# Altium footprint library 转接板封装PCB.PcbLib: 44 footprints (part 3 of 3)
Each footprint in its own frame and in the unit in brackets; x right, y up, seen from the top. Pads: shape width x height; smd on the part's side, far side on the other; paste and mask are expansions set on the pad; w line width, h text height; cw(c..) or ccw(c..) is an arc to the next point about the centre after c.
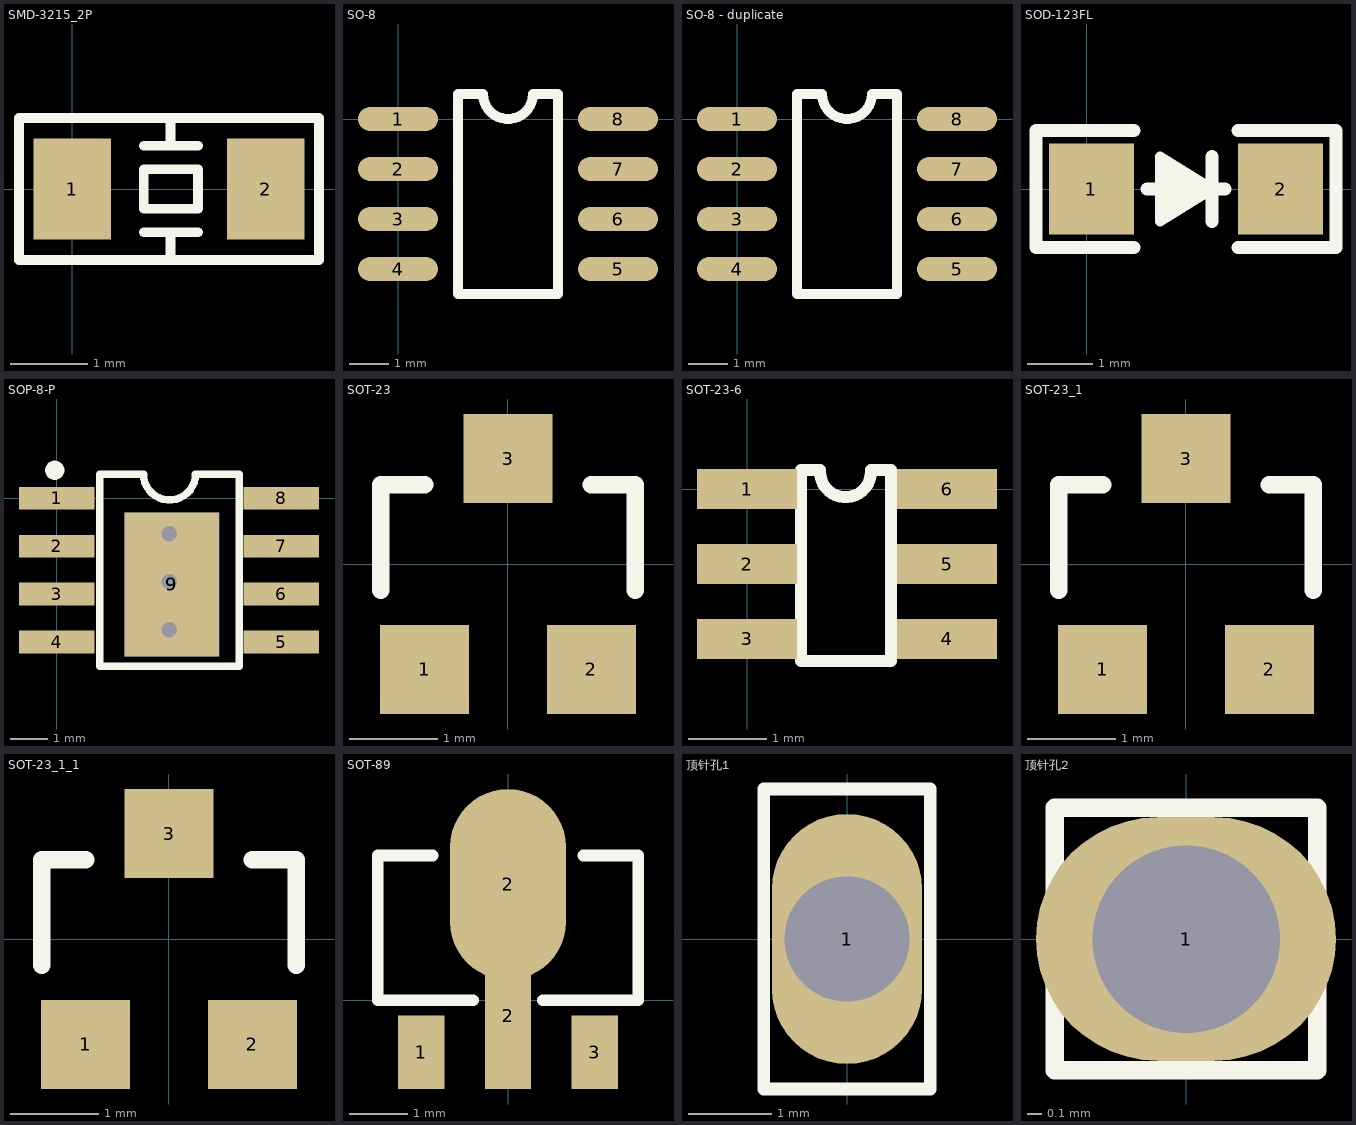
[diagram p2: the footprints below, top view; thin cyan lines are the x and y axes]

## SMD-3215_2P [mm]
height 2.54
pads (2):
  rect 1x1.3 smd: 1(0,0) 2(2.5,0)
Top Overlay:
  lines w0.127: 0.924,-0.559 1.624,-0.559 ; 0.924,0.559 1.624,0.559 ; 1.27,-0.914 1.27,-0.559 ; 1.27,0.559 1.27,0.914 ; -0.686,-0.914 3.186,-0.914 3.186,0.914 -0.686,0.914 -0.686,-0.914 ; 0.924,-0.254 1.624,-0.254 1.624,0.254 0.924,0.254 0.924,-0.254
3D body: height 0.7, standoff 0, extent -0.305,-0.99 2.896,0.991

## SO-8 [mil]
height 100
pads (8):
  oval 80x24 smd: 1(0,0) 2(0,-50) 3(0,-100) 4(0,-150) 5(220,-150) 6(220,-100) 7(220,-50) 8(220,0)
Top Overlay:
  lines w10: 60,-175 60,25 85,25 ccw(c110,25) 135,25 160,25 160,-175 60,-175
3D body "SO-8.STEP": height 66.93, standoff 0, extent -7.11,-171.45 229.12,21.46

## SO-8 - duplicate [mil]
height 100
pads (8):
  oval 80x24 smd: 1(0,0) 2(0,-50) 3(0,-100) 4(0,-150) 5(220,-150) 6(220,-100) 7(220,-50) 8(220,0)
Top Overlay:
  lines w10: 60,-175 60,25 85,25 ccw(c110,25) 135,25 160,25 160,-175 60,-175
3D body "SO-8.STEP": height 66.93, standoff 0, extent -7.11,-171.45 229.12,21.46

## SOD-123FL [mm]
height 4.45
pads (2):
  rect 1.3x1.4 smd: 1(0.074,0) 2(2.974,0)
Top Overlay:
  region: 1.118,-0.5 1.118,0.5 1.918,0.025
  lines w0.152: 1.124,-0.5 1.124,0.5 1.924,0 1.124,-0.5
  lines w0.2: 0.724,-0.9 -0.776,-0.9 -0.776,0.9 0.724,0.9 ; 0.924,0 2.124,0 ; 1.924,-0.5 1.924,0.5 ; 2.324,-0.9 3.824,-0.9 3.824,0.9 2.324,0.9
3D body "User Library-SOD-123FL CASE 498.STEP": height 0.95, standoff 0, extent -0.276,-0.825 3.324,0.825

## SOP-8-P [mm]
pads (10):
  rect 2x0.6 smd: 1(0,0) 2(0,-1.27) 3(0,-2.54) 4(0,-3.81) 5(5.94,-3.81) 6(5.94,-2.54) 7(5.94,-1.27) 8(5.94,0)
  rect 2.5x3.8 smd: 9(3.048,-2.286)
  rect 2.5x3.8 smd far side: 9(3.048,-2.286)
via 2.975,-0.94 diameter 0.813 hole 0.406
via 2.975,-3.48 diameter 0.813 hole 0.406
via 2.975,-2.21 diameter 0.813 hole 0.406
Top Overlay:
  circle w0.254: c-0.054,0.737 r0.127
  lines w0.2: 2.256,0.635 1.143,0.635 1.143,-4.445 4.445,-4.445 ; 2.297,0.635 ccw(c2.983,0.635) 3.67,0.635 ; 3.706,0.635 4.826,0.635 4.826,-4.445 4.42,-4.445
3D body: height 1.8, standoff 0, extent 0.381,-4.572 5.715,0.762

## SOT-23 [mil]
height 175.2
pads (3):
  rect 40x40 smd: 1(-37.4,-47.24) 2(37.4,-47.24) 3(0,47.24)
Top Overlay:
  lines w7.87: -57.09,-11.81 -57.09,35.43 -37.4,35.43 ; 37.4,35.43 57.09,35.43 57.09,-11.81
3D body "SOT-23-3.STEP": height 47.24, standoff 0, extent -57.09,-55.12 57.09,55.12

## SOT-23-6 [mil]
pads (6):
  rect 50x20 smd: 1(0,0) 2(0,-37.4) 3(0,-74.8) 4(100,-74.8) 5(100,-37.4) 6(100,0)
Top Overlay:
  lines w6: 36.54,8.7 ccw(c49.24,8.7) 61.95,8.7 ; 36.54,9.69 27,9.69 27,-86 72,-86 72,9.69 61.95,9.69
3D body "User Library-SOT23-6-2.step": height 57.09, standoff 0, extent -7.11,-94.08 103.12,20.09

## SOT-23_1 [mil]
height 175.2
pads (3):
  rect 40x40 smd: 1(-37.4,-47.24) 2(37.4,-47.24) 3(0,47.24)
Top Overlay:
  lines w7.87: -57.09,-11.81 -57.09,35.43 -37.4,35.43 ; 37.4,35.43 57.09,35.43 57.09,-11.81
3D body "SOT-23-3.STEP": height 47.24, standoff 0, extent -57.09,-55.12 57.09,55.12

## SOT-23_1_1 [mil]
height 175.2
pads (3):
  rect 40x40 smd: 1(-37.4,-47.24) 2(37.4,-47.24) 3(0,47.24)
Top Overlay:
  lines w7.87: -57.09,-11.81 -57.09,35.43 -37.4,35.43 ; 37.4,35.43 57.09,35.43 57.09,-11.81
3D body "SOT-23-3.STEP": height 47.24, standoff 0, extent -57.09,-55.12 57.09,55.12

## SOT-89 [mm]
height 5.85
pads (4):
  rect 0.8x1.27 smd: 1(-1.5,-0.9) 3(1.5,-0.9)
  rect 0.8x2.54 smd: 2(0,-0.265)
  oval 2x3.3 smd: 2(0,2)
Top Overlay:
  lines w0.203: -1.3,2.5 -2.25,2.5 -2.25,0 -0.6,0 ; 0.6,0 2.25,0 2.25,2.5 1.3,2.5
3D body "User Library-SOT-89-2.STEP": height 1.4, standoff 0, extent -2.25,-1.016 2.25,2.919

## 顶针孔1 [mm]
pads (1):
  oval 1.8x3 hole 1.5: 1(0,0)
Top Overlay:
  lines w0.152: -1,-1.8 1,-1.8 1,1.8 -1,1.8 -1,-1.8

## 顶针孔2 [mil]
pads (1):
  oval 80x65 hole 50: 1(0,0)
Top Overlay:
  lines w5: -35,-35 35,-35 35,35 -35,35 -35,-35